# EAGLE library part OV7670FIFO (library ME433_HW6_lib)
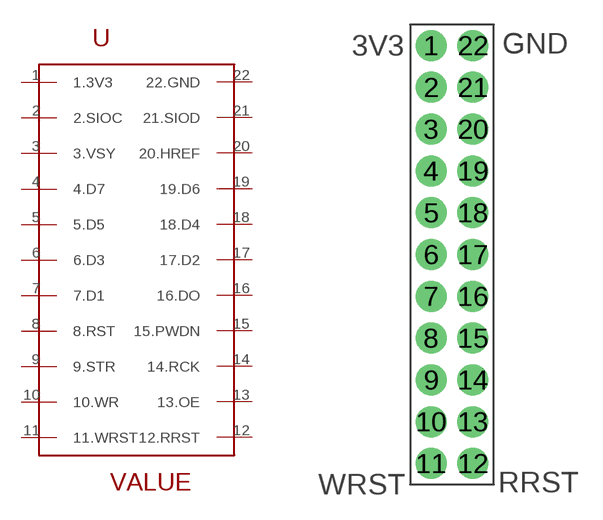
[diagram p11: symbol with the pads of OV7670FIFO; footprint OV7670FIFO]

Designator prefix -

## OV7670FIFO  [OV7670FIFO]
1  1.3V3
2  2.SIOC
3  3.VSY
4  4.D7
5  5.D5
6  6.D3
7  7.D1
8  8.RST
9  9.STR
10  10.WR
11  11.WRST
12  12.RRST
13  13.OE
14  14.RCK
15  15.PWDN
16  16.DO
17  17.D2
18  18.D4
19  19.D6
20  20.HREF
21  21.SIOD
22  22.GND

## Footprint OV7670FIFO (pad centres in mm)
drill 1.016 pad 1.88: 1 -3.81,12.7; 2 -3.81,10.16; 3 -3.81,7.62; 4 -3.81,5.08; 5 -3.81,2.54; 6 -3.81,0; 7 -3.81,-2.54; 8 -3.81,-5.08; 9 -3.81,-7.62; 10 -3.81,-10.16; 11 -3.81,-12.7; 12 -1.27,-12.7; 13 -1.27,-10.16; 14 -1.27,-7.62; 15 -1.27,-5.08; 16 -1.27,-2.54; 17 -1.27,0; 18 -1.27,2.54; 19 -1.27,5.08; 20 -1.27,7.62; 21 -1.27,10.16; 22 -1.27,12.7